# Altium integrated library 6_Axis_Robot_Arm.IntLib: 2 symbols
Pins are listed as number, name and electrical type; pins without a type are passive.

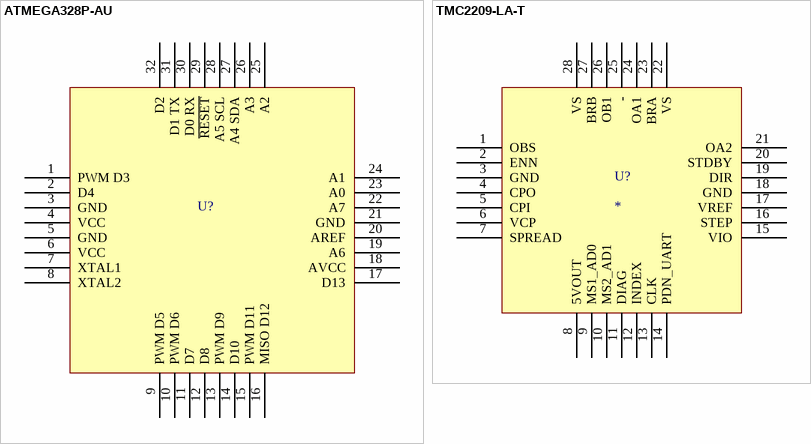
[diagram p0: symbols ATMEGA328P-AU to TMC2209-LA-T]

## ATMEGA328P-AU
designator U?
AVR AVR® ATmega Microcontroller IC 8-Bit 20MHz 32KB (16K x 16) FLASH 32-TQFP (7x7); ComponentLink1Description: Digi-Key; ComponentLink1URL: https://www.digikey.ca/en/products/detail/microchip-technology/ATMEGA328P-AU/1832260; Created By: Mostafa H; Date Created: 2023-08-19; Digi-Key Part Number: ATMEGA328P-AU-ND; ComponentLink2Description: Datasheet; ComponentLink2URL: https://ww1.microchip.com/downloads/aemDocuments/documents/MCU08/ProductDocuments/DataSheets/ATmega48A-PA-88A-PA-168A-PA-328-P-DS-DS40002061B.pdf
footprint TQFP80P900X900X120-32N (TQFP, 32-Leads, Body 7.00x7.00mm, Pitch 0.80mm, IPC Medium Density)
pins: 1 PWM D3, 2 D4, 3 GND, 4 VCC, 5 GND, 6 VCC, 7 XTAL1, 8 XTAL2, 9 PWM D5, 10 PWM D6, 11 D7, 12 D8, 13 PWM D9, 14 D10, 15 PWM D11, 16 MISO D12, 17 D13, 18 AVCC, 19 A6, 20 AREF, 21 GND, 22 A7, 23 A0, 24 A1, 25 A2, 26 A3, 27 A4 SDA, 28 A5 SCL, 29 ~{RESET}, 30 D0 RX, 31 D1 TX, 32 D2

## TMC2209-LA-T
designator U?
IC MTR DRV 4.75-28V QFN28; ComponentLink1Description: Digi-Key; ComponentLink1URL: https://www.digikey.ca/en/products/detail/trinamic-motion-control-gmbh/TMC2209-LA-T/10232491; Created By: Mostafa H & Siddharth V; Date Created: 2023-08-20; Parameter 1: *; Digi-Key Part Number: 1460-1398-2-ND - Tape & Reel (TR)
footprint QFN50P500X500X90_HS-29N (QFN, 28-Leads, Body 5.00x5.00mm, Pitch 0.50mm, Thermal Pad 3.70x3.70mm, IPC Medium Density)
pins: 1 OBS, 2 ENN, 3 GND, 4 CPO, 5 CPI, 6 VCP, 7 SPREAD, 8 5VOUT, 9 MS1_AD0, 10 MS2_AD1, 11 DIAG, 12 INDEX, 13 CLK, 14 PDN_UART, 15 VIO, 16 STEP, 17 VREF, 18 GND, 19 DIR, 20 STDBY, 21 OA2, 22 VS, 23 BRA, 24 OA1, 25 -, 26 OB1, 27 BRB, 28 VS